# EAGLE library part TPS2115A (library CougsInSpace-IC-Power)
Auto Switching Power Mux with Current Limit
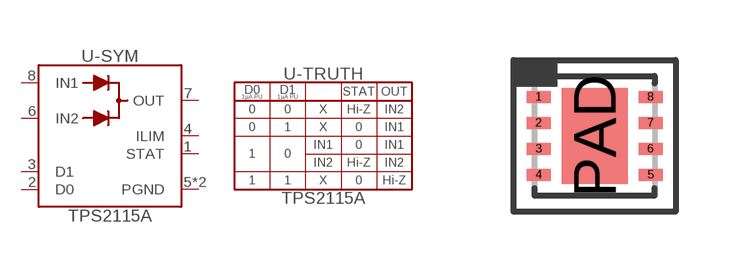
[diagram p9: symbol with the pads of VSON-8; footprint VSON-8]

Designator prefix U; gates -SYM=TPS2115A -TRUTH=TPS2115A-TRUTH

## TPS2115ADRB (SKU: 60-0014; VALUE: TPS2115A)  [VSON-8]
1  -SYM:STAT  oc
2  -SYM:D0  pas
3  -SYM:D1  pas
4  -SYM:ILIM  out
5  -SYM:PGND  pwr
6  -SYM:IN2  pwr
7  -SYM:OUT  pwr
8  -SYM:IN1  pwr
PAD  -SYM:PGND  pwr

## Footprint VSON-8 (pad centres in mm)
Very Thin Small Outline No Lead Package (VSON) - 8 Pins
smd 0.6 x 0.3: 1 -1.4,0.975; 2 -1.4,0.325; 3 -1.4,-0.325; 4 -1.4,-0.975; 5 1.4,-0.975; 6 1.4,-0.325; 7 1.4,0.325; 8 1.4,0.975
smd 1.65 x 2.4: PAD 0,0